# Altium schematic symbol library diode_3.Schlib: 1 symbol
Pins are listed as number, name and electrical type; pins without a type are passive.

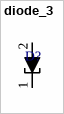
[diagram p0: symbol diode_3]

## diode_3
designator D?  (value not drawn)
Tunnel Diode
pins: 1, 2